# EAGLE library part PCA9515A (library logic-supply)
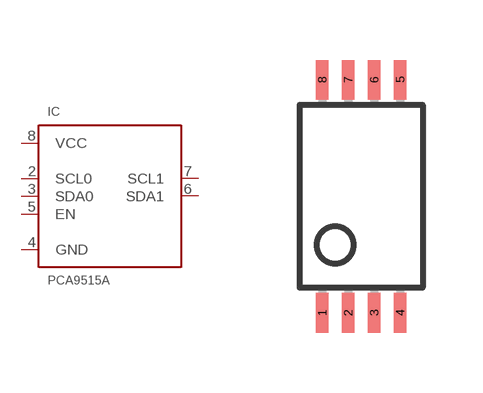
[diagram p4: symbol with the pads of TSSOP8; footprint TSSOP8]

Designator prefix IC

## PCA9515APWR  [TSSOP8]
2  SCL0
3  SDA0
4  GND  pwr
5  EN  in
6  SDA1
7  SCL1
8  VCC  pwr

## Footprint TSSOP8 (pad centres in mm)
smd 0.305 x 0.991: 1 -0.998,-2.918; 2 -0.347,-2.918; 3 0.302,-2.918; 4 0.953,-2.918; 5 0.953,2.918; 6 0.302,2.918; 7 -0.347,2.918; 8 -0.998,2.918